# Altium schematic symbol library 9600K18.SchLib: 1 symbol
Pins are listed as number, name and electrical type; pins without a type are passive.

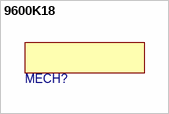
[diagram p0: symbol 9600K18]

## 9600K18
designator MECH?  (mechanical)